# EAGLE library part LM4838 (library lm4838)
LM4838 Boomer Stereo 2W Audio Power Amplifiers with DC Volume Control and Selectable Gain Source: http://www.national.com/ds/LM/LM4838.pdf
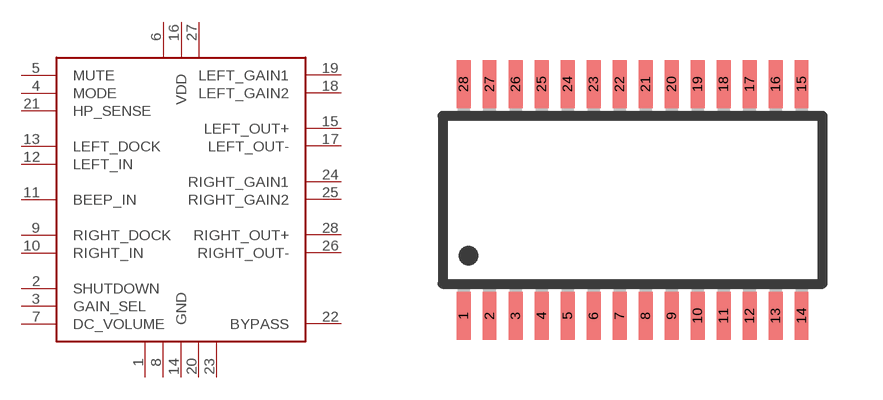
[diagram p0: symbol with the pads of TSSOP28; footprint TSSOP28]

Designator prefix -

## LM4838MT  [TSSOP28]
1  GND  pwr
2  SHUTDOWN  in
3  GAIN_SEL  in
4  MODE  in
5  MUTE  in
6  VDD  pwr
7  DC_VOLUME  in
8  GND  pwr
9  RIGHT_DOCK  in
10  RIGHT_IN  in
11  BEEP_IN  in
12  LEFT_IN  in
13  LEFT_DOCK  in
14  GND  pwr
15  LEFT_OUT+  out
16  VDD  pwr
17  LEFT_OUT-  out
18  LEFT_GAIN2  in
19  LEFT_GAIN1  in
20  GND  pwr
21  HP_SENSE  in
22  BYPASS  pas
23  GND  pwr
24  RIGHT_GAIN1  in
25  RIGHT_GAIN2  in
26  RIGHT_OUT-  out
27  VDD  pwr
28  RIGHT_OUT+  out

## Footprint TSSOP28 (pad centres in mm)
28-Lead TSSOP Package RU-28
smd 0.35 x 1.2: 1 -4.225,-2.9; 2 -3.575,-2.9; 3 -2.925,-2.9; 4 -2.275,-2.9; 5 -1.625,-2.9; 6 -0.975,-2.9; 7 -0.325,-2.9; 8 0.325,-2.9; 9 0.975,-2.9; 10 1.625,-2.9; 11 2.275,-2.9; 12 2.925,-2.9; 13 3.575,-2.9; 14 4.225,-2.9; 15 4.225,2.9; 16 3.575,2.9; 17 2.925,2.9; 18 2.275,2.9; 19 1.625,2.9; 20 0.975,2.9; 21 0.325,2.9; 22 -0.325,2.9; 23 -0.975,2.9; 24 -1.625,2.9; 25 -2.275,2.9; 26 -2.925,2.9; 27 -3.575,2.9; 28 -4.225,2.9